# Altium schematic symbol library MCU_starter_25.SchLib: 28 symbols
Pins are listed as number, name and electrical type; pins without a type are passive.

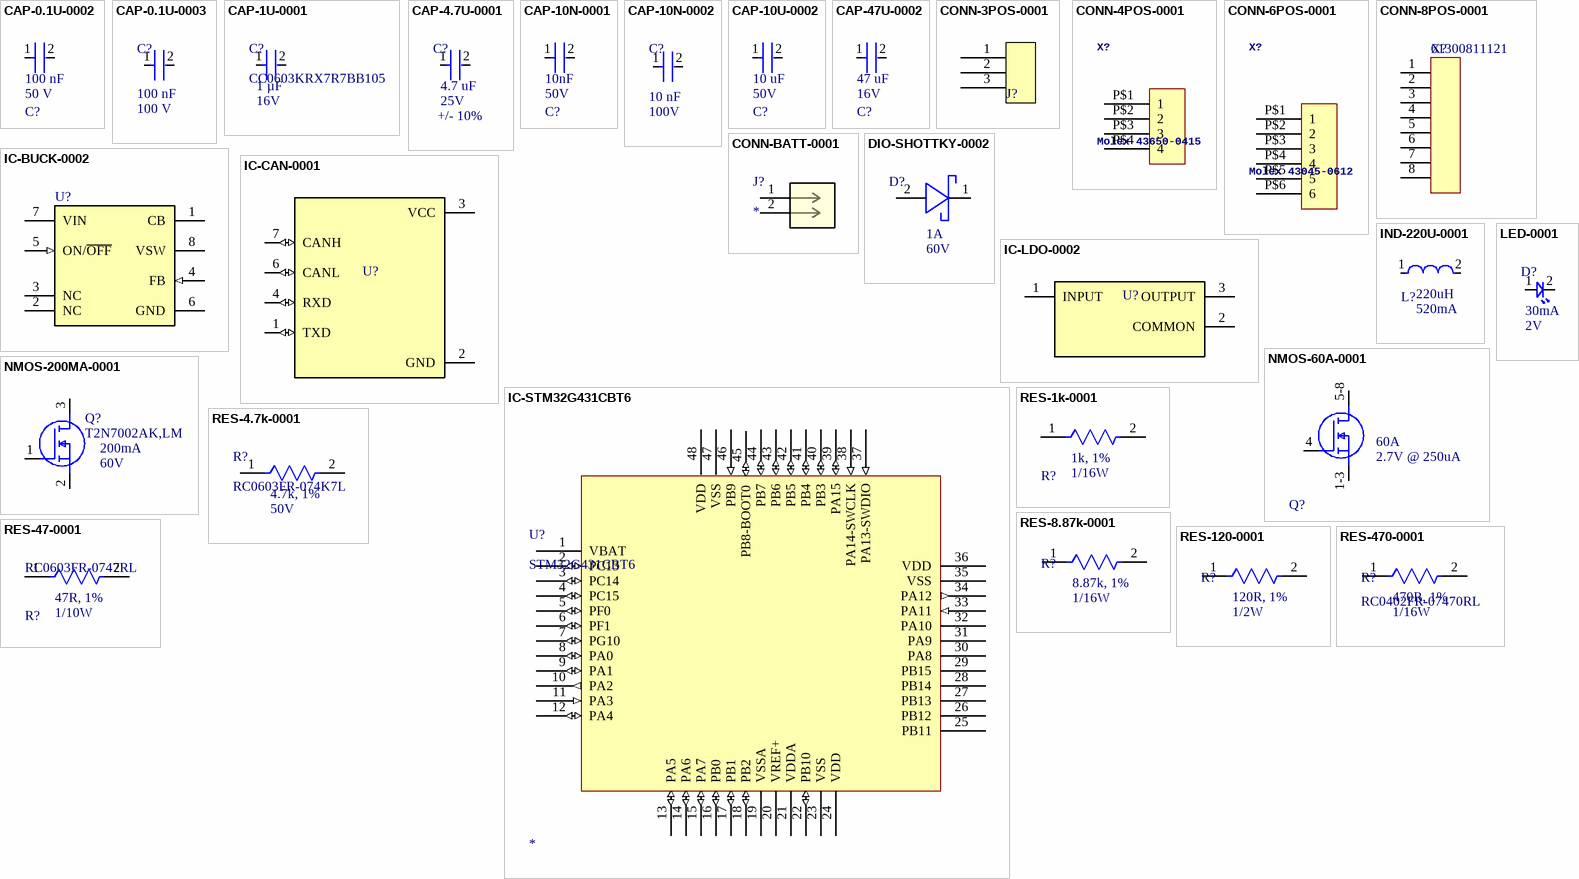
[diagram p0: symbols CAP-0.1U-0002 to RES-470-0001]

## CAP-0.1U-0002
designator C?, comment Voltage Rating: 50 V  Capacitance: 100 nF  (hidden comment: CC0805KRX7R9BB104)
CAP CER 0.1UF 50V X7R 0805; Manufacturer: Yageo; Tolerance: 0.1; Value: 100 nF; Material: Ceramic; Device Class L1: Passive Components; ComponentLink2Description: Datasheet; Package: CC0805-0.85; Manufacturer Part Number: CC0805KRX7R9BB104; Digikey Description: CAP CER 0.1UF 50V X7R 0805; Device Class L3: Ceramic Capacitors; Temperature: -30°C to +85°C; Temperature Characteristic: X7R; Height: 0.95mm; RoHS: TRUE; Ipc Land Pattern Name: CAPC200125X85; Device Class L2: Capacitors; Category: Cap; Temperature Range Low: -30°C; Temperature Range High: +85°C; Mouser Description: Multilayer Ceramic Capacitors MLCC - SMD/SMT 100nF 50V X7R 10%; Footprint Url: http://www.yageo.com/exep/pages/download/literatures/UPY-C_GEN_24.pdf; Automotive: No; Octopart: https://octopart.com/cc0805krx7r9bb104-yageo-192993; Lead Free: Yes; ComponentLink2URL: http://www.yageo.com/documents/recent/UPY-GPHC_Y5V_6.3V-to-50V_8.pdf
footprint FP-CC0805-0_85-MFG
pins: 1, 2

## CAP-0.1U-0003
designator C?, comment Capacitance: 100 nF  Voltage: 100 V  (hidden comment: CC0603KRX7R0BB104)
0.1 µF ±10% 100V Ceramic Capacitor X7R 0603 (1608 Metric)
footprint CAP-0603
pins: 1, 2

## CAP-1U-0001
designator C?, comment CC0603KRX7R7BB105  Capacitance: 1 µF  Voltage: 16V
1 µF ±10% 16V Ceramic Capacitor X7R 0603 (1608 Metric)
footprint CAP-0603
pins: 1, 2

## CAP-4.7U-0001
designator C?, comment Capacitance: 4.7 uF  Voltage: 25V  Tolerence: +/- 10%  (hidden comment: CC0603KRX5R8BB475)
25V 4.7uF X5R ±10% 0603 Multilayer Ceramic Capacitors MLCC - SMD/SMT ROHS; assembled: yes; JLC part number: C326580; Tolerance: 10%
footprint CAP-0603
pins: 1, 2

## CAP-10N-0001
designator C?, comment Voltage Rating (DC): 50V  Capacitance: 10nF  (hidden comment: GRM2195C1H103JA01D)
CAP CER 10000PF 50V C0G/NP0 0805; Dielectric Material: Ceramic; Dielectric: C0G; Insulation Resistance: 10GR; Tolerance: 5%; Temperature Coefficient: 30ppm/°C; Max Operating Temperature: 125°C; Height: 0.85mm; Voltage: 50V; Voltage Rating: 50V; Thickness: 0.037inch; REACH SVHC: No SVHC; Lead Free: Lead Free; Depth: 1.25mm; Min Operating Temperature: -55°C; Package Quantity: 1; Packaging: Tape and Reel; Case Code (Imperial): 0805; Case/Package: 0805; Mount: Surface Mount; Width: 0.049inch; Case Code (Metric): 2012; Length: 2mm; Termination: SMD/SMT; Material: Ceramic; Number of Pins: 2; Radiation Hardening: No
footprint FP-GRM219-0_1-MFG
pins: 1, 2

## CAP-10N-0002
designator C?, comment Capacitance: 10 nF  Voltage Rating: 100V  (hidden comment: CC0603KRX7R0BB103)
100V 10nF X7R ±10% 0603 Multilayer Ceramic Capacitors MLCC - SMD/SMT ROHS; Manufacturer: Yageo; Assembled?: yes; Manufacturer Part Number: CC0603KRX7R0BB103; Temperature Coefficient: X7R; Package Size: 0603; JLC Part Number: C107059; Tolerance: 10%
footprint CAP-0603
pins: 1, 2

## CAP-10U-0002
designator C?, comment Voltage Rating (DC): 50V  Capacitance: 10 uF  (hidden comment: CL32B106KBJNNNE)
CAP CER 10UF 50V X7R 1210; Tolerance: 10%; Material: Ceramic; Min Operating Temperature: -55°C; Depth: 2.5mm; Radiation Hardening: No; Packaging: Tape and Reel; Dielectric: X7R; Case Code (Metric): 3225; Height: 2.5mm; Thickness: 0.106inch; Voltage Rating: 50V; Width: 0.098inch; Case Code (Imperial): 1210; Length: 3.2mm; Lead Free: Lead Free; Package Quantity: 1; Voltage: 50V; Mount: Surface Mount; Case/Package: 1210; Max Operating Temperature: 125°C
footprint FP-CL32-IPC_B
pins: 1, 2

## CAP-47U-0002
designator C?, comment Capacitance: 47 uF  Voltage: 16V  (hidden comment: GRM32ER61C476KE15L)
CAP CER 47UF 16V X5R 1210; Tolerance: 10%; Material: Ceramic; RoHS Compliant: Yes; Min Operating Temperature: -55°C; Radiation Hardening: No; Package Quantity: 1; Case Code (Imperial): 1210; REACH SVHC: No SVHC; Voltage Rating (DC): 16V; Dielectric: X5R; Case/Package: 1210; Length: 3.2mm; Voltage Rating: 16V; Packaging: Cut Tape; Width: 0.098inch; Number of Pins: 2; Lead Free: Lead Free; Height: 2.5mm; Mount: Surface Mount; Termination: SMD/SMT; Max Operating Temperature: 85°C; Thickness: 0.106inch; Depth: 2.5mm; Case Code (Metric): 3225
footprint FP-GRM32E-0_3-0_2-MFG
pins: 1, 2

## CONN-3POS-0001
designator J?, comment 61300311121  (value not drawn)
Connector Header Through Hole 3 position 0.100" (2.54mm); NexarPartId: 32855521; Current Rating: 3A; Voltage Rating: 250V; Number of Positions: 3; Contact Resistance: 20mΩ; Connector Type: Male Pin; Gender: Male; REACH SVHC: Unknown; Packaging: Bulk; Contact Material: Copper; Pitch: 2.54mm; Min Operating Temperature: -40°C; Number of Rows: 1; Orientation: Vertical; RoHS: Compliant; Contact Plating: Gold; Max Operating Temperature: 105°C; Mount: Through Hole; Height: 8.94mm; Operating Supply Voltage: 250V; Number of Pins: 3; Contact Mating Length: 5.9944mm; Number of Contacts: 3; Color: Black; Lead Free: Lead Free; Lead Pitch: 2.54mm; Termination: Solder
footprint 61300311121 (Pin Header, pitch 2.54 mm, THT, Vertical, single row, 3p)
pins: 1 7, 2 8, 3 9

## CONN-4POS-0001
designator X?, comment Molex 43650-0415
GateName_1: G$1; SymbolName_1: HEADER_POS4; DeviceSetName: HEADER_POS4_?; DeviceName: 43650-0415; LibraryName: con-molex-micro-fit-3_0_2; Package: 43650-0415
footprint 43650-0415
pins: P$1 1, P$2 2, P$3 3, P$4 4

## CONN-6POS-0001
designator X?, comment Molex 43045-0612
GateName_1: G$1; SymbolName_1: HEADER_POS6; DeviceSetName: HEADER_POS6_?; DeviceName: 43045-0612; LibraryName: con-molex-micro-fit-3_0_2; Package: 43045-0612
footprint 43045-0612
pins: P$1 1, P$2 2, P$3 3, P$4 4, P$5 5, P$6 6

## CONN-8POS-0001
designator X?, comment 61300811121
CONN HEADER VERT 8POS 2.54MM; NexarPartId: 32855533; Connector Type: Male Pin; Number of Contacts: 8; Voltage Rating: 250V; Current Rating: 3A; Contact Resistance: 20mΩ; Gender: Male; Termination: Solder; Contact Material: Copper; Mount: Through Hole; Lead Pitch: 2.54mm; Number of Positions: 8; Operating Supply Voltage: 250V; Number of Pins: 8; Max Operating Temperature: 105°C; Height: 8.54mm; Pitch: 2.54mm; REACH SVHC: Unknown; Number of Rows: 1; Packaging: Bulk; Contact Plating: Gold; Contact Mating Length: 5.9944mm; Orientation: Vertical; RoHS: Compliant; Color: Black; Min Operating Temperature: -40°C
footprint 61300811121 (Pin Header, pitch 2.54 mm, THT, Vertical, single row, 8p)
pins: 1, 2, 3, 4, 5, 6, 7, 8

## CONN-BATT-0001
designator J?
Connector Header Through Hole 2 position 0.118" (3.00mm); Mfr_Name: Molex Connector Corporation; RefDes: RefDes; Type: Type
footprint CON_436500215_MOL
pins: 1, 2

## DIO-SHOTTKY-0002
designator D?, comment Forward Current: 1A  Reverse Voltage (DC): 60V  (hidden comment: PMEG6010CEH,115)
Diode 60 V 1A Surface Mount SOD-123F; Mfr_Name: Nexperia
footprint SDO_SOD123F_NEX (Footprint not found)
pins: 1 ANODE, 2 CATHODE

## IC-BUCK-0002
designator U?, comment LM2674M-ADJ/NOPB  (value not drawn)
IC REG BUCK ADJ 500MA 8SOIC; Manufacturer: Texas Instruments; PackageTopMarking: NSZXTT*2674*MADJ; CompType: Switcher; PowerWise: N; ComponentLink1Description: Datasheet URL; PinCount: 8; RoHS: Y; ComponentLink1URL: http://www.ti.com/general/docs/lit/getliterature.tsp?genericPartNumber=LM2674&fileType=pdf; Code_IPC: SOIC127P600-8; PackageReference: D0008A; PackageDescription: SOIC Narrow, 4.9 x 3.9 x 1.45mm, 8 Lead, 1.27mm Pitch; Code_JEDEC: MS-012-AA
footprint D0008A_N (Footprint not found)
pins: 1 CB, 2 NC, 3 NC, 4 FB (in), 5 ON/~{OFF} (in), 6 GND (power), 7 VIN (power), 8 VSW (power)

## IC-CAN-0001
designator U?, comment TCAN332GDR  (value not drawn)
3.3-V CAN Transceivers with CAN FD (Flexible Data Rate); MF: Texas Instruments; Purchase-URL: https://pricing.snapeda.com/search?q=TCAN332GDR&ref=eda; Package: SOIC-8 Texas Instruments; Check_prices: https://www.snapeda.com/parts/TCAN332GDR/Texas+Instruments/view-part/?ref=eda; Value: *; SnapEDA_Link: https://www.snapeda.com/parts/TCAN332GDR/Texas+Instruments/view-part/?ref=snap; MP: TCAN332GDR; Digi-Key_Part_Number: 296-48678-2-ND
footprint SOIC127P599X175-8N
pins: 1 TXD (io), 2 GND (power), 3 VCC (power), 4 RXD (io), 6 CANL (io), 7 CANH (io)

## IC-LDO-0002
designator U?, comment UA78M33CDCYR  (value not drawn)
IC REG LIN 3.3V 500MA SOT223-4; MF: Texas Instruments; Purchase-URL: https://pricing.snapeda.com/search/part/UA78M33CDCYR/?ref=eda; Package: SOT-223-4 Texas Instruments; Value: *; Check_prices: https://www.snapeda.com/parts/UA78M33CDCYR/Texas+Instruments/view-part/?ref=eda; SnapEDA_Link: https://www.snapeda.com/parts/UA78M33CDCYR/Texas+Instruments/view-part/?ref=snap; Availability: In Stock; Price: None; MP: UA78M33CDCYR
footprint VREG_UA78M33CDCYR
pins: 1 INPUT (power), 2 COMMON (power), 3 OUTPUT (power)

## IC-STM32G431CBT6
designator U?, comment STM32G431CBT6
ARM® Cortex®-M4F STM32G4 Microcontroller IC 32-Bit Single-Core 170MHz 128KB (128K x 8) FLASH 48-LQFP (7x7); Parameter 1: *
footprint LQFP48-7x7mm
pins: 1 VBAT (power), 2 PC13 (io), 3 PC14 (io), 4 PC15 (io), 5 PF0 (io), 6 PF1 (io), 7 PG10 (io), 8 PA0 (io), 9 PA1 (io), 10 PA2 (out), 11 PA3 (in), 12 PA4 (io), 13 PA5 (io), 14 PA6 (io), 15 PA7 (io), 16 PB0 (io), 17 PB1 (io), 18 PB2 (io), 19 VSSA (power), 20 VREF+ (power), 21 VDDA (power), 22 PB10 (io), 23 VSS (power), 24 VDD (power), 25 PB11 (power), 26 PB12 (power), 27 PB13 (power), 28 PB14 (power), 29 PB15 (power), 30 PA8 (power), 31 PA9 (power), 32 PA10 (power), 33 PA11 (in), 34 PA12 (out), 35 VSS (power), 36 VDD (power), 37 PA13-SWDIO (in), 38 PA14-SWCLK (in), 39 PA15 (io), 40 PB3 (io), 41 PB4 (io), 42 PB5 (io), 43 PB6 (io), 44 PB7 (io), 45 PB8-BOOT0 (io), 46 PB9 (in), 47 VSS (power), 48 VDD (power)

## IND-220U-0001
designator L?, comment Inductance: 220uH  Current Rating: 520mA  (hidden comment: CDRH104NP-221MC)
FIXED IND 220UH 520MA 960MOHM SM
footprint IND-220UH-0001
pins: 1, 2

## LED-0001
designator D?, comment Current Rating: 30mA  Vf: 2V  (hidden comment: BL-HKC36G-AV-TRB)
LED YELLOW CLEAR 0603 SMD
footprint LED0603-R-RD
pins: 1, 2

## NMOS-60A-0001
designator Q?, comment Vgs: 2.7V @ 250uA  Drain Current: 60A  (hidden comment: CSD18543Q3AT)
MOSFET N-CH 60V 12A/60A 8VSON; Manufacturer: Texas Instruments; Turn On Delay Time: 9ns; Number Of Channels: 1; Reverse Recovery Charge: 37nC; Continuous Drain Current: 12A; Pulse Drain Current: 156A; Typ Forward Diode Voltage: 0.8V; Gate Charge At Vgs: 11.1nC @ 10V; Depletion Mode: False; Transconductance: 40S; Threshold Vgs Min: 1.5V; Max Forward Diode Voltage: 1V; Turn Off Delay Time: 8ns; Threshold Vgs Max: 2.7V; Power Dissipation: 2.8W; Max Junction Temp: +150°C; Reverse Recovery Time: 27ns; Drain To Source Resistance: 8.1mΩ; Standoff Height: 0mm; Rthja Max: 55°C/W; Input Capacitace At Vds: 885pF @ 30V; Gate To Source Voltage: 20V; Device Class L1: Discrete Semiconductors; ComponentLink2Description: Datasheet; Drain To Source Voltage: 60V; Mouser Description: Transistor: N-MOSFET; unipolar; 60V; 35A; 66W; VSONP8 3, 3x3, 3mm; RoHS: TRUE; Manufacturer Part Number: CSD18543Q3AT; Digikey Description: 60V N-CHANNEL NEXFET POWER MOSF; Lead Free: Yes; Height: 0.9mm; Device Class L3: MOSFETs; Number Of N Channels: 1; Drain To Source Breakdown Voltage: 60V; Category: Trans; Automotive: No; Package: DNH0008A; Octopart: https://octopart.com/csd18543q3at-texas+instruments-77040189; Temperature Range Low: -55°C; Device Class L2: Transistors; Temperature: -55°C to +150°C; Temperature Range High: +150°C; ComponentLink2URL: http://www.ti.com/lit/ds/symlink/csd18543q3a.pdf
footprint FP-DNH0008A-MFG; pin to pad 1-3>1+2+3 5-8>5-6-7-8
pins: 1-3 S, 4 G, 5-8 D

## NMOS-200MA-0001
designator Q?, comment T2N7002AK,LM  Id-Continuous: 200mA  VDS-Max: 60V
MOSFET N-CH 60V 200MA SOT23; Manufacturer: Toshiba; FET type: N-Channel; Rds On-Max: 3.9Ohm; Vgs-Max: 20V; Assembled?: no; Manufacturer Part Number: T2N7002AK,LM; Package: SOT-23-3
footprint NMOS-SOT23-3
pins: 1 G, 2 S, 3 D

## RES-1k-0001
designator R?, comment Power: 1/16W  Resistance: 1k, 1%  (hidden comment: RC0402FR-071KL)
RES 1K OHM 1% 1/16W 0402; Max Power Dissipation: 63mW; Voltage Rating (DC): 50V; Temperature Coefficient: 100ppm/°C; Power Rating: 62.5mW; Technology: THICK FILM; Size Code: 0402; Series: RC; Length: 1mm; Case/Package: 0402; Features: Moisture Resistant; Termination: SMD/SMT; Case Code (Metric): 1005; Reach SVHC Compliant: Yes; Number of Terminations: 2; Tolerance: 1%; Lead Free: Lead Free; Military Standard: Not; Resistor Type: Thick Film; Max Operating Temperature: 155°C; RoHS Compliant: Yes; Construction: Rectangular; Voltage Rating: 50V; Packaging: Tape and Reel; Height: 0.32mm; Number of Pins: 2; Resistance Tolerance: 1%; Case Code (Imperial): 0402; Depth: 0.5mm; Min Operating Temperature: -55°C; Width: 0.5mm
footprint RESC1005X40X25NL05T10 (Chip Resistor, 2-Leads, Body 1.00x0.50mm, IPC Medium Density)
pins: 1, 2

## RES-4.7k-0001
designator R?, comment RC0603FR-074K7L  Voltage Rating: 50V  Resistance: 4.7k, 1%
Chip Resistor, 4.7 KOhm, +/- 1%, 0.1 W, -55 to 155 degC, 0603 (1608 Metric), RoHS, Tape and Reel; Manufacturer: Yageo; Power Rating: 100mW; Temperature Coefficient: 100PPM/C; Package Reference: 0603; Series: RC; Datasheet Version: Rev. 7, 05/2017; Packaging: Reel; Termination Style: SMD/SMT; Datasheet URL: http://www.yageo.com/documents/recent/PYu-RC_Group_51_RoHS_L_7.pdf; Manufacturer URL: http://www.yageo.com/; Package Description: 2-Pin Surface Mount Device, Body 1.6 x 0.8 mm; Case Code - mm: 1608; Case Code - in: 0603; Mounting Technology: SurfaceMount; Operating Temperature Range: -55Cto+155C; Tolerance: 1%; Product: ThickFilmResistorsGeneralPurpose
footprint RESC1608X55X25LL10T15 (Chip Resistor, 2-Leads, Body 1.60x0.80mm, IPC High Density)
pins: 1, 2

## RES-8.87k-0001
designator R?, comment Resistance: 8.87k, 1%  Power: 1/16W  (hidden comment: RC0402FR-078K87L)
RES 8.87K OHM 1% 1/16W 0402; Manufacturer: Yageo / Phycomp; Part Number: RC0402FR-078K87L
footprint RESC1005X40X25NL05T10 (Chip Resistor, 2-Leads, Body 1.00x0.50mm, IPC Medium Density)
pins: 1, 2
1 alternate drawing of the same symbol

## RES-47-0001
designator R?, comment RC0603FR-0747RL  Power Rating: 1/10W  Resistance: 47R, 1%
47 Ohms ±1% 0.1W, 1/10W Chip Resistor 0603 (1608 Metric) Moisture Resistant Thick Film; NexarPartId: 40952917; Voltage Rating (DC): 50V; Temperature Coefficient: 100ppm/°C; Voltage Rating: 75V; Max Power Dissipation: 100mW; Length: 1.6mm; Height: 450µm; Case/Package: 0603; Lead Free: Lead Free; Max Operating Temperature: 155°C; Number of Pins: 2; RoHS: Compliant; Packaging: Tape & Reel; Mount: Surface Mount; Termination: SMD/SMT; Depth: 800µm; Case Code (Metric): 1608; Weight: 2.012816mg; Tolerance: 1%; Width: 800µm; Features: Moisture Resistant; Min Operating Temperature: -55°C; Schedule B: 8533210045, 8533210045|8533210045, 8533210045|8533210045|8533210045, 8533210045|8533210045|8533210045|8533210045; Number of Terminations: 2; Case Code (Imperial): 0603; Military Standard: Not; Composition: Thick Film; REACH SVHC: No SVHC; Voltage Rating (AC): 50V
footprint FP-RC0603-0_55-IPC_C
pins: 1, 2

## RES-120-0001
designator R?, comment Power: 1/2W  Resistance: 120R, 1%  (hidden comment: RC1210FR-07120RL)
120 Ohms ±1% 0.5W, 1/2W Chip Resistor 1210 (3225 Metric) Moisture Resistant Thick Film; Manufacturer: Yageo; Part Number: RC1210FR-07120RL
footprint RESC3126X60X50LL10T20 (Chip Resistor, 2-Leads, Body 3.10x2.60mm, IPC High Density)
pins: 1, 2
1 alternate drawing of the same symbol

## RES-470-0001
designator R?, comment RC0402FR-07470RL  Power: 1/16W  Resistance: 470R, 1%
470 Ohms ±1% 0.063W, 1/16W Chip Resistor 0402 (1005 Metric) Moisture Resistant Thick Film; Manufacturer: Yageo / Phycomp; Part Number: RC0402FR-07470RL
footprint RESC1005X40X25NL05T10 (Chip Resistor, 2-Leads, Body 1.00x0.50mm, IPC Medium Density)
pins: 1, 2
1 alternate drawing of the same symbol